# EAGLE library part HW-125 (library HW-125)
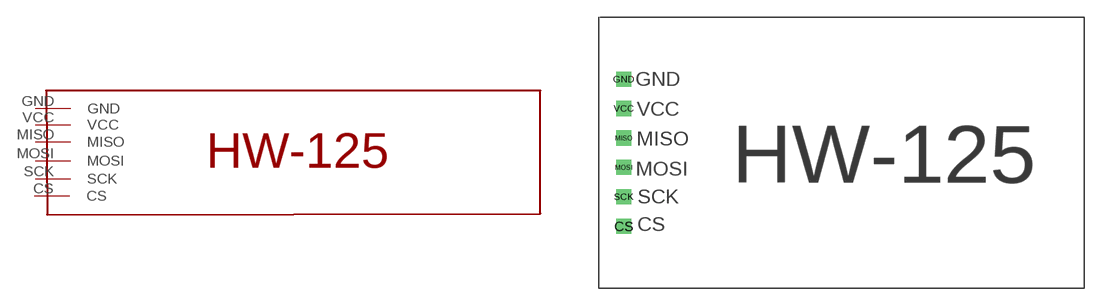
[diagram p0: symbol with the pads of HW-125; footprint HW-125]

Designator prefix -

## HW-125  [HW-125]
CS  CS
GND  GND
MISO  MISO
MOSI  MOSI
SCK  SCK
VCC  VCC

## Footprint HW-125 (pad centres in mm)
drill 0.8 square: CS 2.159,-18.034; GND 2.14,-5.35; MISO 2.159,-10.414; MOSI 2.159,-12.954; SCK 2.159,-15.494; VCC 2.159,-7.874